# EAGLE library part STM8S103 (library X893)
http://www.terraelectronica.ru/pdf/ST/STM8S103K3T6.pdf
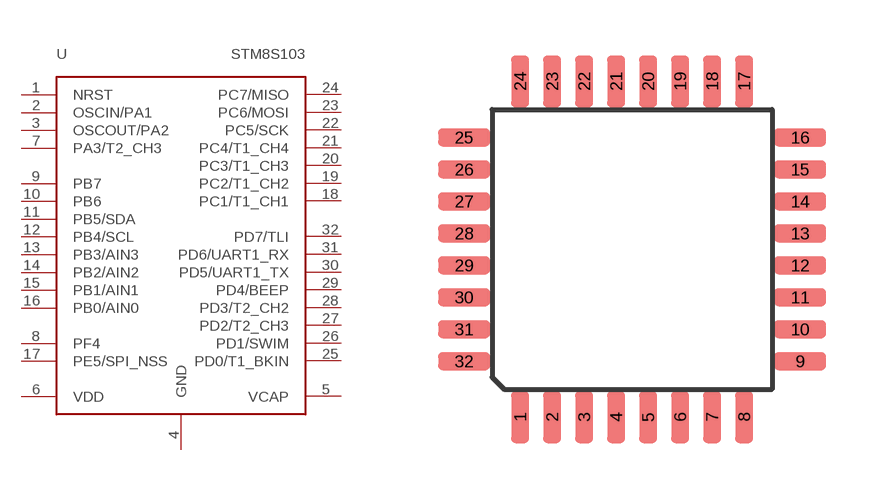
[diagram p137: symbol with the pads of LQFP32; footprint LQFP32]

Designator prefix U

## STM8S103K  [LQFP32]
1  NRST
2  OSCIN/PA1
3  OSCOUT/PA2
4  GND  sup
5  VCAP  pas
6  VDD  pwr
7  PA3/T2_CH3
8  PF4
9  PB7
10  PB6
11  PB5/SDA
12  PB4/SCL
13  PB3/AIN3
14  PB2/AIN2
15  PB1/AIN1
16  PB0/AIN0
17  PE5/SPI_NSS
18  PC1/T1_CH1
19  PC2/T1_CH2
20  PC3/T1_CH3
21  PC4/T1_CH4
22  PC5/SCK
23  PC6/MOSI
24  PC7/MISO
25  PD0/T1_BKIN
26  PD1/SWIM
27  PD2/T2_CH3
28  PD3/T2_CH2
29  PD4/BEEP
30  PD5/UART1_TX
31  PD6/UART1_RX
32  PD7/TLI

## Footprint LQFP32 (pad centres in mm)
LQFP-32 package 7x7 mm case, 0.8 mm lead pitch
smd 0.45 x 1.3: 1 -2.8,-4.2; 2 -2,-4.2; 3 -1.2,-4.2; 4 -0.4,-4.2; 5 0.4,-4.2; 6 1.2,-4.2; 7 2,-4.2; 8 2.8,-4.2; 17 2.8,4.2; 18 2,4.2; 19 1.2,4.2; 20 0.4,4.2; 21 -0.4,4.2; 22 -1.2,4.2; 23 -2,4.2; 24 -2.8,4.2
smd 1.3 x 0.45: 9 4.2,-2.8; 10 4.2,-2; 11 4.2,-1.2; 12 4.2,-0.4; 13 4.2,0.4; 14 4.2,1.2; 15 4.2,2; 16 4.2,2.8; 25 -4.2,2.8; 26 -4.2,2; 27 -4.2,1.2; 28 -4.2,0.4; 29 -4.2,-0.4; 30 -4.2,-1.2; 31 -4.2,-2; 32 -4.2,-2.8